# Altium footprint library BRK73601.PcbLib: 26 footprints (part 2 of 2)
Each footprint in its own frame and in the unit in brackets; x right, y up, seen from the top. Pads: shape width x height; smd on the part's side, far side on the other; paste and mask are expansions set on the pad; w line width, h text height; cw(c..) or ccw(c..) is an arc to the next point about the centre after c.
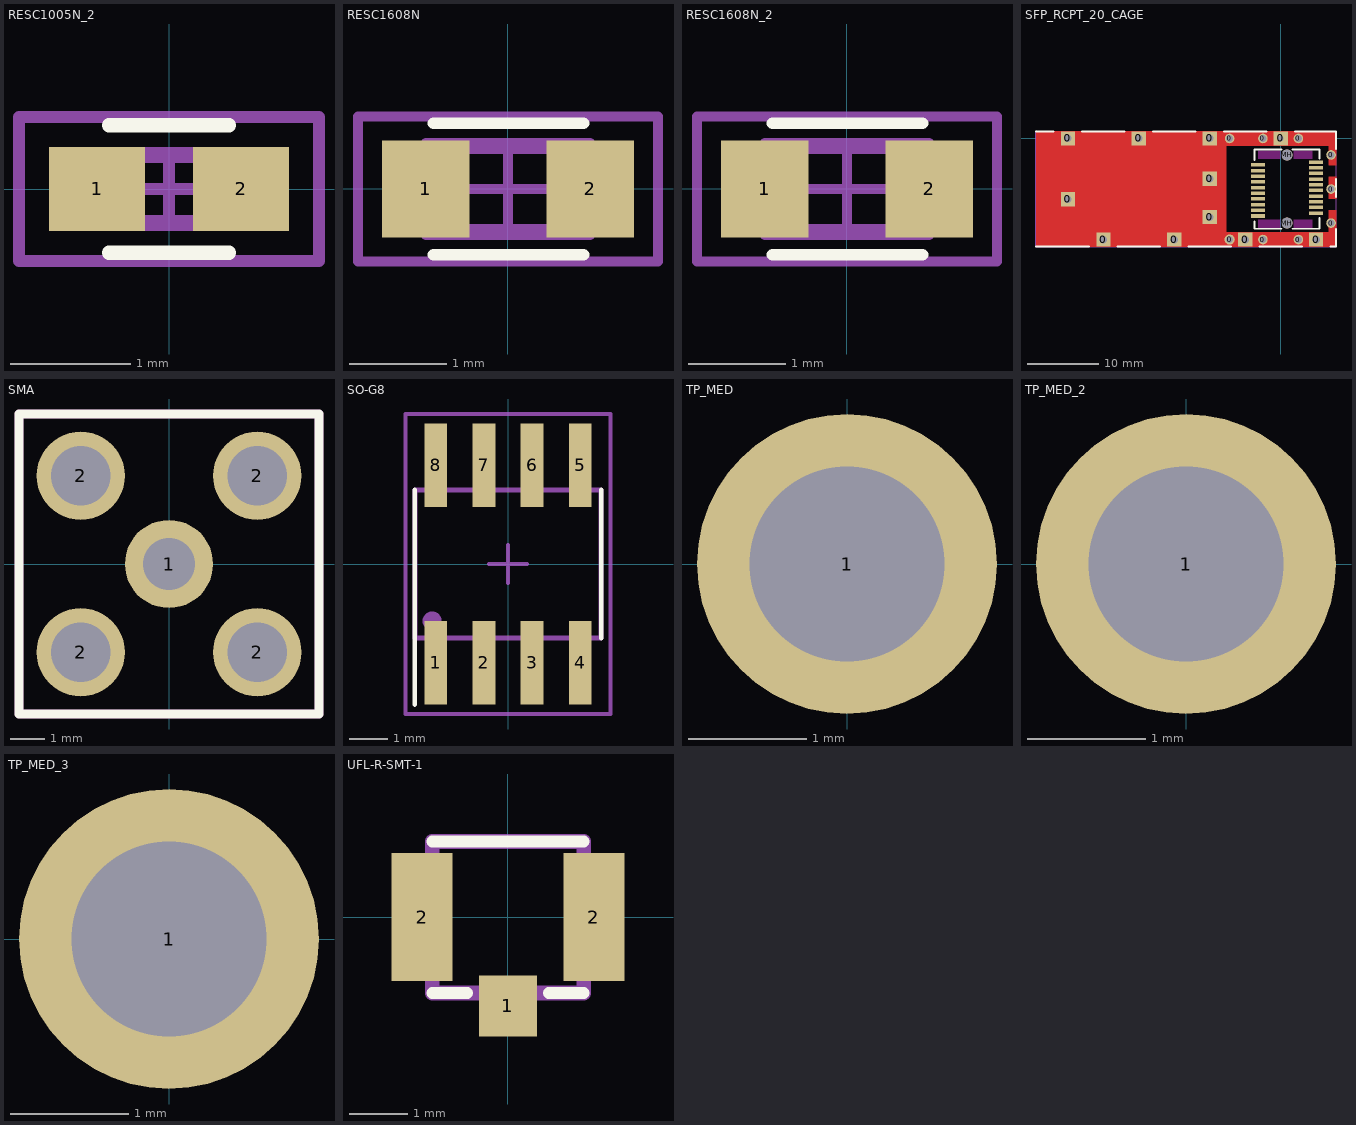
[diagram p1: the footprints below, top view; thin cyan lines are the x and y axes]

## RESC1005N_2 [mm]
pads (2):
  rect 0.8x0.7 smd: 1(-0.6,0) 2(0.6,0)
Top Overlay:
  lines w0.12: -0.5,-0.53 0.5,-0.53 ; -0.5,0.53 0.5,0.53
Mechanical 13:
  lines w0.1: -0.55,-0.3 0.55,-0.3 0.55,0.3 -0.55,0.3 -0.55,-0.3
Mechanical 15:
  lines w0.1: -0.3,0 0.3,0 ; 0,-0.3 0,0.3 ; -1.25,-0.6 1.25,-0.6 1.25,0.6 -1.25,0.6 -1.25,-0.6
Mechanical 16:
  lines w0.064: -0.5,-0.25 0.5,-0.25 0.5,0.25 -0.5,0.25 -0.5,-0.25
Mechanical 29:
  text ".Designator" at -0.384,-0.1 h0.2
3D body: height 0.4, standoff 0, extent -0.55,-0.3 0.55,0.3

## RESC1608N [mm]
pads (2):
  rect 0.9x1 smd: 1(-0.85,0) 2(0.85,0)
Top Overlay:
  lines w0.12: -0.77,-0.68 0.78,-0.68 ; -0.77,0.68 0.78,0.68
Mechanical 13:
  lines w0.1: -0.85,-0.475 -0.85,0.475 0.85,0.475 0.85,-0.475 -0.85,-0.475
Mechanical 15:
  lines w0.1: -0.475,0 0.475,0 ; 0,-0.475 0,0.475 ; -1.55,-0.75 -1.55,0.75 1.55,0.75 1.55,-0.75 -1.55,-0.75
Mechanical 16:
  lines w0.127: -0.775,-0.425 -0.775,0.425 0.775,0.425 0.775,-0.425 -0.775,-0.425
Mechanical 29:
  text ".Designator" at -0.5,-0.1 h0.25
3D body: height 0.6, standoff 0, extent -0.85,-0.475 0.85,0.475

## RESC1608N_2 [mm]
pads (2):
  rect 0.9x1 smd: 1(-0.85,0) 2(0.85,0)
Top Overlay:
  lines w0.12: -0.77,-0.68 0.78,-0.68 ; -0.77,0.68 0.78,0.68
Mechanical 13:
  lines w0.1: -0.85,-0.475 -0.85,0.475 0.85,0.475 0.85,-0.475 -0.85,-0.475
Mechanical 15:
  lines w0.1: -0.475,0 0.475,0 ; 0,-0.475 0,0.475 ; -1.55,-0.75 -1.55,0.75 1.55,0.75 1.55,-0.75 -1.55,-0.75
Mechanical 16:
  lines w0.127: -0.775,-0.425 -0.775,0.425 0.775,0.425 0.775,-0.425 -0.775,-0.425
Mechanical 29:
  text ".Designator" at -0.5,-0.1 h0.25
3D body: height 0.6, standoff 0, extent -0.85,-0.475 0.85,0.475

## SFP_RCPT_20_CAGE [mm]
pads (42):
  rect 2x2 hole 1.05: 0(-30,-8.58) 0(-30,0) 0(-25,-14.25) 0(-20,0) 0(-15,-14.25) 0(-10,-11.08) 0(-10,-5.68) 0(-10,0) 0(-5,-14.25) 0(5,-14.25)
  round 1.45 hole 0.95: 0(-7.2,-14.25)
  round 1.35 hole 0.95: 0(-7.2,0) 0(-2.5,-14.25) 0(-2.5,0) 0(2.5,-14.25) 0(2.5,0) 0(7.1,-11.93) 0(7.1,-7.13) 0(7.1,-2.33)
  rect 2x2 hole 0.85: 0(0,0)
  rect 2x0.5 smd: 1(-3.2,-3.73) 2(-3.2,-4.53) 3(-3.2,-5.33) 4(-3.2,-6.13) 5(-3.2,-6.93) 6(-3.2,-7.73) 7(-3.2,-8.53) 8(-3.2,-9.33) 9(-3.2,-10.13) 10(-3.2,-10.93) 11(5,-10.53) 12(5,-9.73) 13(5,-8.93) 14(5,-8.13) 15(5,-7.33) 16(5,-6.53) 17(5,-5.73) 18(5,-4.93) 19(5,-4.13) 20(5,-3.33)
  round 1.55 hole 1.55 unplated: MH(0.9,-11.93) MH(0.9,-2.33)
Top Layer:
  region: 7.8,-3.75 6.8,-3.75 6.8,-1 7.8,-1
  region: 7.8,-13.25 6.8,-13.25 6.8,-10.125 7.8,-10.125
  region: -7.7,1 7.8,1 7.8,-1 -7.7,-1
  region: -7.7,-15.25 7.8,-15.25 7.8,-13.25 -7.7,-13.25
  region: -34.5,1 -7.7,1 -7.7,-15.25 -34.5,-15.25
  region: 7.8,-8.525 6.8,-8.525 6.8,-5.4 7.8,-5.4
Top Layer keep-out:
  rectangle: -3.2,-12.6 0,-11.4
  rectangle: 1.8,-12.6 4.5,-11.4
  rectangle: 1.8,-2.9 4.5,-1.7
  rectangle: -3.2,-2.9 0,-1.7
Top Overlay:
  lines w0.254: -34.5,-15.25 -27,-15.25 ; -34.5,1 -32,1 ; -28,1 -22,1 ; -23,-15.25 -17,-15.25 ; -18,1 -12,1 ; -13,-15.25 -7,-15.25 ; -8,1 -2,1 ; -3.672,-11.702 -3.672,-12.718 0.138,-12.718 ; -3.672,-3.066 -3.672,-1.542 0.138,-1.542 ; -3,-15.25 3,-15.25 ; 1.662,-12.718 5.472,-12.718 5.472,-11.194 ; 1.662,-1.542 5.472,-1.542 5.472,-2.812 ; 2,1 7.8,1 7.8,-1.5 ; 7,-15.25 7.8,-15.25 7.8,-12.75 ; 7.8,-8.3 7.8,-5.7
Mechanical 1:
  lines w0.254: -34.5,-15.25 -34.5,1
Mechanical 16:
  lines w0.1: -34.5,-15.25 7.8,-15.25 7.8,1 -34.5,1 -34.5,-15.25
Mechanical 29:
  text ".Designator" at -19.25,-7.65 h1.52

## SMA [mil]
pads (5):
  round 100 hole 59: 1(0,0)
  round 100 hole 67: 2(-100,-100) 2(-100,100) 2(100,-100) 2(100,100)
Top Overlay keep-out:
  lines w10: -170,-170 170,-170 170,170 -170,170 -170,-170
Mechanical 16:
  lines w3.94: -169.29,-169.29 -169.29,169.29 169.29,169.29 169.29,-169.29 -169.29,-169.29
Mechanical 29:
  text ".Designator" at -60.7,-19.69 h50

## SO-G8 [mm]
pads (8):
  rect 0.6x2.2 smd: 1(-1.905,-2.6) 2(-0.635,-2.6) 3(0.635,-2.6) 4(1.905,-2.6) 5(1.905,2.6) 6(0.635,2.6) 7(-0.635,2.6) 8(-1.905,2.6)
Top Overlay:
  lines w0.12: -2.45,-3.7 -2.45,1.95 ; 2.45,-1.95 2.45,1.95
Mechanical 15:
  lines w0.1: -0.5,0 0.5,0 ; 0,-0.5 0,0.5 ; -2.7,-3.95 -2.7,3.95 2.7,3.95 2.7,-3.95 -2.7,-3.95
Mechanical 16:
  circle w0.25: c-2,-1.5 r0.125
  rectangle: -2.077,-3 -1.727,-1.95
  rectangle: -0.807,-3 -0.457,-1.95
  rectangle: 0.463,-3 0.813,-1.95
  rectangle: 1.733,-3 2.083,-1.95
  rectangle: -2.077,1.973 -1.727,3.023
  rectangle: -0.813,1.973 -0.463,3.023
  rectangle: 0.457,1.973 0.807,3.023
  rectangle: 1.727,1.973 2.077,3.023
  lines w0.127: -2.45,-1.95 -2.45,1.95 2.45,1.95 2.45,-1.95 -2.45,-1.95
Mechanical 29:
  text ".Designator" at -1.346,-0.356 h0.76

## TP_MED [mil]
pads (1):
  round 100 hole 65: 1(0,0)

## TP_MED_2 [mil]
pads (1):
  round 100 hole 65: 1(0,0)

## TP_MED_3 [mil]
pads (1):
  round 100 hole 65: 1(0,0)

## UFL-R-SMT-1 [mm]
pads (3):
  rect 1x1.05 smd paste-2: 1(0,-1.525)
  rect 1.05x2.2 smd paste-2: 2(-1.475,0) 2(1.475,0)
Top Overlay:
  lines w0.203: -1.3,-1.3 -0.7,-1.3 ; -1.3,1.3 1.3,1.3 ; 0.7,-1.3 1.3,-1.3
Mechanical 16:
  lines w0.254: -1.3,-1.3 1.3,-1.3 1.3,1.3 -1.3,1.3 -1.3,-1.3
Mechanical 29:
  text ".Designator" at -0.502,-0.197 h0.51